# Altium schematic symbol library BZT52C4V7-7-F.SchLib: 1 symbol
Pins are listed as number, name and electrical type; pins without a type are passive.

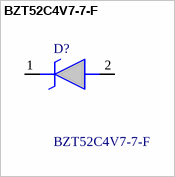
[diagram p0: symbol BZT52C4V7-7-F]

## BZT52C4V7-7-F
designator D?
Diodes Inc BZT52C4V7-7-F Zener Diode, 4.7V 7% 500 mW SMT 2-Pin SOD-123; Manufacturer_Name: Diodes Incorporated; Geometry.Height: 1.45mm; Manufacturer_Part_Number: BZT52C4V7-7-F; Mouser Part Number: 621-BZT52C4V7-F; Mouser Price/Stock: https://www.mouser.co.uk/ProductDetail/Diodes-Incorporated/BZT52C4V7-7-F?qs=J8U5V1LGimN8O12FVAOKUQ%3D%3D; Arrow Part Number: BZT52C4V7-7-F; Arrow Price/Stock: https://www.arrow.com/en/products/bzt52c4v7-7-f/diodes-incorporated?region=nac; Datasheet Link: https://www.diodes.com/assets/Datasheets/ds18004.pdf
footprint SOD3716X145N
pins: 1 K, 2 A